# Altium schematic symbol library Air_Logger_PCB.SCHLIB: 60 symbols
Pins are listed as number, name and electrical type; pins without a type are passive.

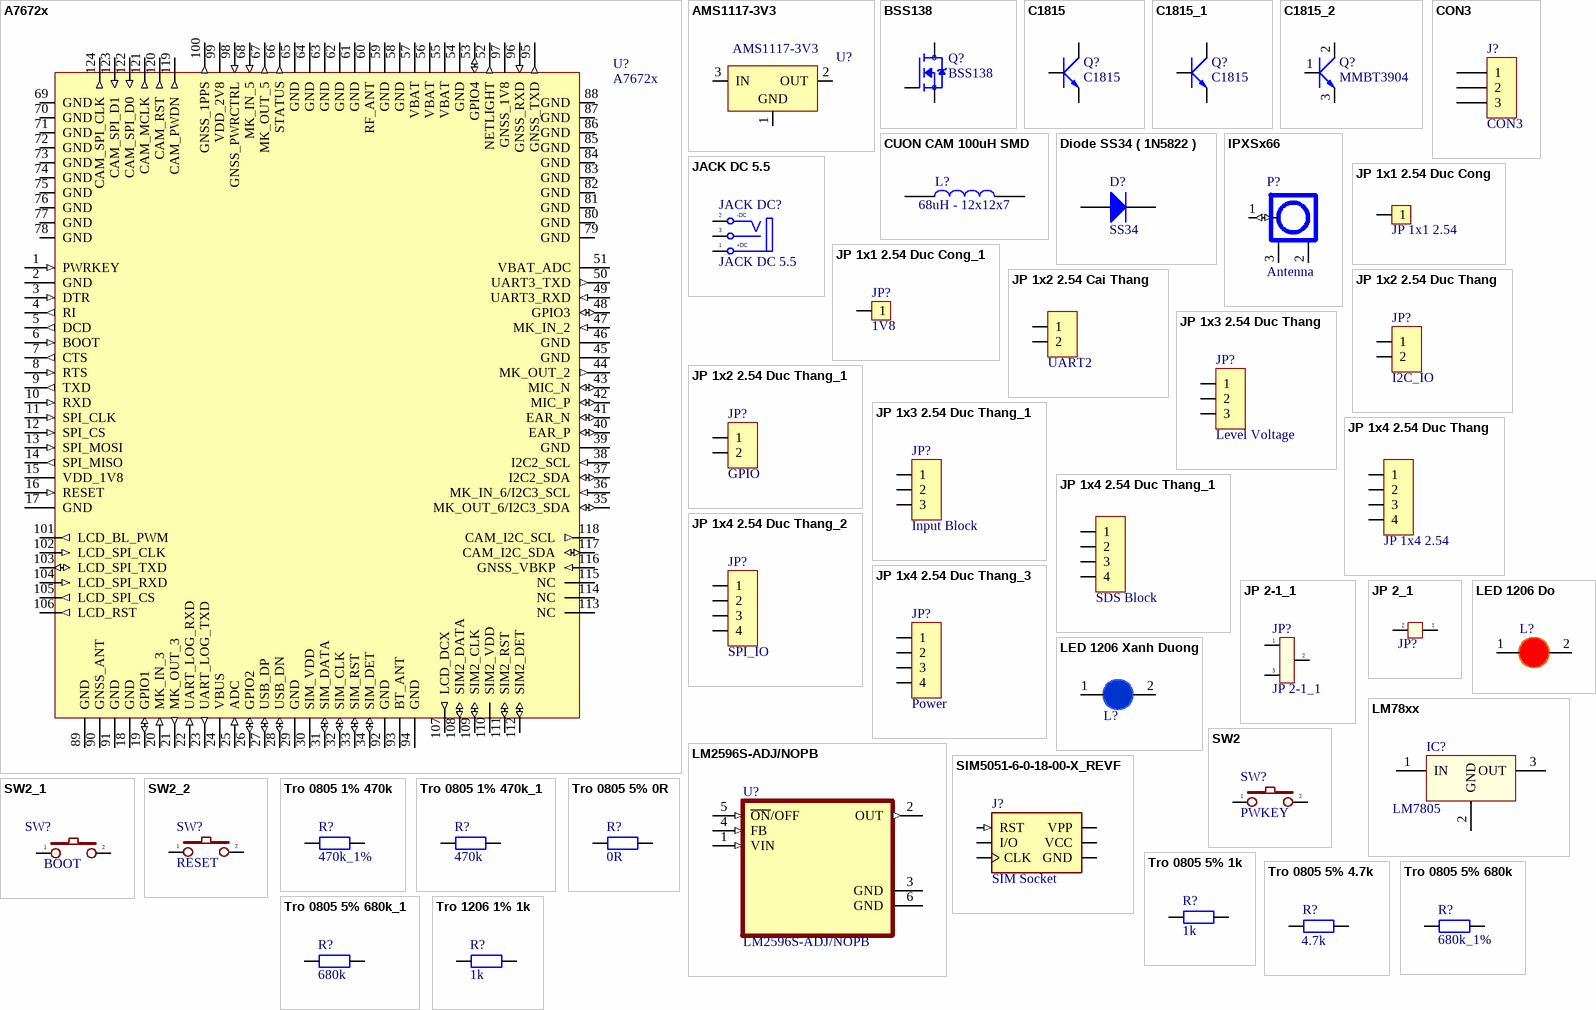
[diagram p0: symbols A7672x to Tro 1206 1% 1k]

## A7672x
designator U?
LTE CAT 1 module, 2,3,4G; MFR: SIMCOM; MPN: A7672S; Company ID: VT_Module_A7672S
footprint A7672
pins: 1 PWRKEY (in), 2 GND (power), 3 DTR (in), 4 RI (out), 5 DCD (out), 6 BOOT (in), 7 CTS (out), 8 RTS (in), 9 TXD (out), 10 RXD (in), 11 SPI_CLK (in), 12 SPI_CS (in), 13 SPI_MOSI (in), 14 SPI_MISO (out), 15 VDD_1V8 (power), 16 RESET (in), 17 GND (power), 18 GND (power), 19 GPIO1 (io), 20 MK_IN_3 (in), 21 MK_OUT_3 (out), 22 UART_LOG_RXD (in), 23 UART_LOG_TXD (out), 24 VBUS (power), 25 ADC (in), 26 GPIO2 (io), 27 USB_DP (io), 28 USB_DN (io), 29 GND (power), 30 SIM_VDD (power), 31 SIM_DATA (io), 32 SIM_CLK (io), 33 SIM_RST (io), 34 SIM_DET (io), 35 MK_OUT_6/I2C3_SDA (io), 36 MK_IN_6/I2C3_SCL (in), 37 I2C2_SDA (io), 38 I2C2_SCL (in), 39 GND (power), 40 EAR_P (io), 41 EAR_N (io), 42 MIC_P (io), 43 MIC_N (io), 44 MK_OUT_2 (out), 45 GND (power), 46 GND (power), 47 MK_IN_2 (in), 48 GPIO3 (io), 49 UART3_RXD (in), 50 UART3_TXD (out), 51 VBAT_ADC (power), 52 NETLIGHT (out), 53 GPIO4 (io), 54 GND (power), 55 VBAT (power), 56 VBAT (power), 57 VBAT (power), 58 GND (power), 59 GND (power), 60 RF_ANT, 61 GND (power), 62 GND (power), 63 GND (power), 64 GND (power), 65 GND (power), 66 STATUS (out), 67 MK_OUT_5 (out), 68 MK_IN_5 (in), 69 GND (power), 70 GND (power), 71 GND (power), 72 GND (power), 73 GND (power), 74 GND (power), 75 GND (power), 76 GND (power), 77 GND (power), 78 GND (power), 79 GND (power), 80 GND (power), 81 GND (power), 82 GND (power), 83 GND (power), 84 GND (power), 85 GND (power), 86 GND (power), 87 GND (power), 88 GND (power), 89 GND (power), 90 GNSS_ANT, 91 GND (power), 92 GND (power), 93 BT_ANT, 94 GND (power), 95 GNSS_TXD (out), 96 GNSS_RXD (in), 97 GNSS_1V8 (power), 98 GNSS_PWRCTRL (in), 99 VDD_2V8 (power), 100 GNSS_1PPS (out), 101 LCD_BL_PWM (out), 102 LCD_SPI_CLK (in), 103 LCD_SPI_TXD (io), 104 LCD_SPI_RXD (in), 105 LCD_SPI_CS (out), 106 LCD_RST (out), 107 LCD_DCX (out), 108 SIM2_DATA (io), 109 SIM2_CLK (io), 110 SIM2_VDD (power), 111 SIM2_RST (io), 112 SIM2_DET (io), 113 NC, 114 NC, 115 NC, 116 GNSS_VBKP (in), 117 CAM_I2C_SDA (io), 118 CAM_I2C_SCL (out), 119 CAM_PWDN (out), 120 CAM_RST (out), 121 CAM_MCLK (out), 122 CAM_SPI_D0 (in), 123 CAM_SPI_D1 (in), 124 CAM_SPI_CLK (out)

## AMS1117-3V3
designator U?
Linear Voltage Regulator 3.3V 1A 15V Max SOT-223; ComponentLink1Description: Datasheet; ComponentLink1URL: D:\Dropbox\Datasheets\Power Management ICs\Linear Regulators\AMS1117.pdf; Unit Price: 0.2000
footprint AMS1117-3.3V (SOT223, 4-Leads, Body 6.7x7.3mm (max), Pitch 2.30mm, IPC Medium Density)
pins: 1 GND (power), 2 OUT (power), 3 IN (power), 4 OUT (power)

## BSS138
designator Q?
N-Channel 50V 220mA (Ta) 360mW (Ta) Surface Mount SOT-23-3; MF: ON Semiconductor; MP: BSS138; Price: None; SnapEDA_Link: https://www.snapeda.com/parts/BSS138/ON%20Semiconductor/view-part/4794929/?ref=snap; Availability: Good; Purchase-URL: https://pricing.snapeda.com/search/part/BSS138/?ref=eda; Value: *; Check_prices: https://www.snapeda.com/parts/BSS138/ON%20Semiconductor/view-part/4794929/?ref=eda; Package: SOT-23 ON Semiconductor
footprint SOT95P240X111-3N
pins: 1 G, 2 S, 3 D

## C1815
designator Q?
NPN 600mW, ECB; Value: C1815
footprint QTO-92 (TO-92)
footprint SOT23B (SOT 23B)
pins: 1 E, 2 C, 3 B

## C1815_1
designator Q?, comment C1815
NPN 600mW, ECB; Value: C1815
footprint QTO-92 (TO-92)
footprint SOT23B (SOT 23B)
pins: 1 E, 2 C, 3 B

## C1815_2
designator Q?, comment MMBT3904
NPN 600mW, ECB; Value: C1815
footprint SOT23B C1815
pins: 1 B, 2 C, 3 E

## CON3
designator J?
Connector
footprint CON3
pins: 1, 2, 3

## CUON CAM 100uH SMD
designator L?, comment 68uH - 12x12x7
Dán; Don_Vi: Con; Ma_Hang: MH003999; Ten_Linh_Kien: Cuộn Cảm 100uH 7x7x4MM CD74; Ma_Hang: *; Kieu_Chan: *; Chung_Loai: Dán
footprint Cuon Cam 12x12x10
pins: 1, 2

## Diode SS34 ( 1N5822 )
designator D?, comment SS34
Dán; Don_Vi: Con; Ma_Hang: MH002104; Ten_Linh_Kien: Diode SS34 3A 40V SMA ( 1N5822 SS34A); Kieu_Chan: *; Chung_Loai: Dán
footprint DIODE SMA (SMA)
pins: 1 A, 2 K

## IPXSx66
designator P?, comment Antenna
Antenna GSM GPS
footprint IPXS (SOT 23 _ 1-3-2)
pins: 1 (io), 2, 3

## JACK DC 5.5
designator JACK DC?
Value: Jac DC
footprint JACK DC 5.5 (Jac DC input)
pins: 1 T "Tip", 2 TN "Tip Normal (Break Contact)", 3 S (power) "Sleeve (Ground)"
text: -DC; +DC

## JP 1x1 2.54 Duc Cong
designator JP?, comment JP 1x1 2.54
Cắm; Ten_Linh_Kien: Jump Đơn Đực 2.54MM 1x40P Cong Đứng; Don_Vi: Con; Ma_Hang: MH000904; Ghi_Chu: *; Kieu_Chan: *; Chung_Loai: Cắm
footprint JP 1x1 DT
pins: 1

## JP 1x1 2.54 Duc Cong_1
designator JP?, comment 1V8
Cắm; Ten_Linh_Kien: Jump Đơn Đực 2.54MM 1x40P Cong Đứng; Don_Vi: Con; Ma_Hang: MH000904; Ghi_Chu: *; Kieu_Chan: *; Chung_Loai: Cắm
footprint JP 1x1 DT
pins: 1

## JP 1x2 2.54 Cai Thang
designator JP?, comment UART2
Cắm; Ten_Linh_Kien: Jump Đơn Cái 2.54MM 1x20P Thẳng; Don_Vi: Con; Ma_Hang: MH004006; Ghi_Chu: *; Kieu_Chan: *; Chung_Loai: Cắm
footprint JP 1x2 CT
pins: 1, 2

## JP 1x2 2.54 Duc Thang
designator JP?, comment I2C_IO
Cắm; Ten_Linh_Kien: Jump Đơn Đực 2.54MM 1x40P Thẳng 11MM; Don_Vi: Con; Ma_Hang: MH000903; Ghi_Chu: *; Kieu_Chan: *; Chung_Loai: Cắm
footprint JP 1x2 DT (2 pins, 1 row, straight, gold plating)
pins: 1, 2

## JP 1x2 2.54 Duc Thang_1
designator JP?, comment GPIO
Cắm; Ten_Linh_Kien: Jump Đơn Đực 2.54MM 1x40P Thẳng 11MM; Don_Vi: Con; Ma_Hang: MH000903; Ghi_Chu: *; Kieu_Chan: *; Chung_Loai: Cắm
footprint JP 1x2 DT (2 pins, 1 row, straight, gold plating)
pins: 1, 2

## JP 1x3 2.54 Duc Thang
designator JP?, comment Level Voltage
Cắm; Ten_Linh_Kien: Jump Đơn Đực 2.54MM 1x40P Thẳng 11MM; Don_Vi: Con; Ma_Hang: MH000903; Ghi_Chu: *; Kieu_Chan: *; Chung_Loai: Cắm
footprint JP 1x3 DT
pins: 1, 2, 3

## JP 1x3 2.54 Duc Thang_1
designator JP?, comment Input Block
Cắm; Ten_Linh_Kien: Jump Đơn Đực 2.54MM 1x40P Thẳng 11MM; Don_Vi: Con; Ma_Hang: MH000903; Ghi_Chu: *; Kieu_Chan: *; Chung_Loai: Cắm
footprint JP 1x3 DT
pins: 1, 2, 3

## JP 1x4 2.54 Duc Thang
designator JP?, comment JP 1x4 2.54
Cắm; Ten_Linh_Kien: Jump Đơn Đực 2.54MM 1x40P Thẳng 11MM; Don_Vi: Con; Ma_Hang: MH000903; Ghi_Chu: *; Kieu_Chan: *; Chung_Loai: Cắm
footprint JP 1x4 DT (4 pins, 1 row, straight, gold plating)
pins: 1, 2, 3, 4

## JP 1x4 2.54 Duc Thang_1
designator JP?, comment SDS Block
Cắm; Ten_Linh_Kien: Jump Đơn Đực 2.54MM 1x40P Thẳng 11MM; Don_Vi: Con; Ma_Hang: MH000903; Ghi_Chu: *; Kieu_Chan: *; Chung_Loai: Cắm
footprint JP 1x4 DT (4 pins, 1 row, straight, gold plating)
pins: 1, 2, 3, 4

## JP 1x4 2.54 Duc Thang_2
designator JP?, comment SPI_IO
Cắm; Ten_Linh_Kien: Jump Đơn Đực 2.54MM 1x40P Thẳng 11MM; Don_Vi: Con; Ma_Hang: MH000903; Ghi_Chu: *; Kieu_Chan: *; Chung_Loai: Cắm
footprint JP 1x4 DT (4 pins, 1 row, straight, gold plating)
pins: 1, 2, 3, 4

## JP 1x4 2.54 Duc Thang_3
designator JP?, comment Power
Cắm; Ten_Linh_Kien: Jump Đơn Đực 2.54MM 1x40P Thẳng 11MM; Don_Vi: Con; Ma_Hang: MH000903; Ghi_Chu: *; Kieu_Chan: *; Chung_Loai: Cắm
footprint JP 1x4 DT (4 pins, 1 row, straight, gold plating)
pins: 1, 2, 3, 4

## JP 2-1_1
designator JP?
Jumper 2-1; Value: J2-1
footprint JP3 (Jumper 3)
pins: 1, 2, 3

## JP 2_1
designator JP?, comment Jumper 2  (value not drawn)
Value: JP 2
footprint J2 (Jum select vdd or gnd)
pins: 1, 2

## LED 1206 Do
designator L?, comment LED 0805  (value not drawn)
Dán; Don_Vi: Con; Ma_Hang: MH002334; Ten_Linh_Kien: LED1206 Màu Đỏ (Red); Ghi_Chu: *; Kieu_Chan: *; Chung_Loai: Dán
footprint LED-1206-Red
pins: 1 A, 2 K

## LED 1206 Xanh Duong
designator L?, comment LED 0805  (value not drawn)
Dán; Don_Vi: Con; Ma_Hang: MH002333; Ten_Linh_Kien: LED1206 Màu Xanh Dương (Blue); Ghi_Chu: *; Kieu_Chan: *; Chung_Loai: Dán
footprint LED-1206-Blue (Compoment SMD 120x60mil)
pins: 1 A, 2 K

## LM78xx
designator IC?, comment LM7805
On ap +, from + 5 to + 24VDC; Value: LM7805
footprint QTO-220 (TO-220 - 1-2-3)
footprint QTO-220H3 (TO-220 1-2-3)
footprint QTO-220NH (TO-220 - 1-2-3)
footprint TO-252
footprint 78l05
pins: 1 IN, 2 GND, 3 OUT

## LM2596S-ADJ/NOPB
designator U?
SIMPLE SWITCHER&reg; 4.5V to 40V, 3A Low Component Count Step-Down Regulator; MF: Texas Instruments; Price: None; Package: TO-263-5 Texas Instruments; Purchase-URL: https://pricing.snapeda.com/search/part/LM2596S-ADJ/NOPB/?ref=eda; Availability: In Stock; SnapEDA_Link: https://www.snapeda.com/parts/LM2596S-ADJ/NOPB/Texas+Instruments/view-part/?ref=snap; Value: *; MP: LM2596S-ADJ/NOPB; Check_prices: https://www.snapeda.com/parts/LM2596S-ADJ/NOPB/Texas+Instruments/view-part/?ref=eda
footprint VREG_LM2596S-ADJ/NOPB
pins: 1 VIN (in), 2 OUT (out), 3 GND (power), 4 FB (in), 5 ~{ON}/OFF (in), 6 GND (power)

## SIM5051-6-0-18-00-X_REVF
designator J?, comment SIM Socket
Memory Socket, Sim Card, 6pos; MP: SIM5051-6-0-18-00-A REV C; MF: Global Connector Technology; Availability: Unavailable; SnapEDA_Link: https://www.snapeda.com/parts/SIM5051-6-0-18-00-A%20REV%20C/Global%20Connector%20Technology/view-part/812969/?ref=snap; Price: None; Package: None; Value: *
footprint GCT_SIM5051-6-0-18-00-X_REVF
pins: C1 VCC (power), C2 RST (in), C3 CLK (io), C5 GND (power), C6 VPP (power), C7 I/O (io)

## SW2
designator SW?, comment PWKEY
Switch button 2 pin; Value: SW chip 2 pin
footprint SW2 (SW button 2pin, 250x 250 mil)
footprint sw_ran_2pin
footprint BUTT_Cam_ung
pins: 1, 2

## SW2_1
designator SW?, comment BOOT
Switch button 2 pin; Value: SW chip 2 pin
footprint SW2 (SW button 2pin, 250x 250 mil)
footprint sw_ran_2pin
footprint BUTT_Cam_ung
pins: 1, 2

## SW2_2
designator SW?, comment RESET
Switch button 2 pin; Value: SW chip 2 pin
footprint SW2 (SW button 2pin, 250x 250 mil)
footprint sw_ran_2pin
footprint BUTT_Cam_ung
pins: 1, 2

## Tro 0805 1% 470k
designator R?, comment 470k_1%
Dán; Don_Vi: Con; So_Chan: 2; Ten_Linh_Kien: Trở 0805 1% 470k; Ma_Hang: MH005485; Chung_Loai: Dán; Kieu_Chan: *
footprint tro smd 0805
pins: 1, 2

## Tro 0805 1% 470k_1
designator R?, comment 470k
Dán; Don_Vi: Con; So_Chan: 2; Ten_Linh_Kien: Trở 0805 1% 470k; Ma_Hang: MH005485; Chung_Loai: Dán; Kieu_Chan: *
footprint tro smd 0805
pins: 1, 2

## Tro 0805 5% 0R
designator R?, comment 0R
Dán; Don_Vi: Con; So_Chan: 2; Ten_Linh_Kien: Trở 0805 5% 0R; Ma_Hang: MH005230; Chung_Loai: Dán; Kieu_Chan: *
footprint tro smd 0805
pins: 1, 2

## Tro 0805 5% 1k
designator R?, comment 1k
Dán; Don_Vi: Con; So_Chan: 2; Ten_Linh_Kien: Trở 0805 5% 1k; Ma_Hang: MH005234; Chung_Loai: Dán; Kieu_Chan: *
footprint tro smd 0805
pins: 1, 2

## Tro 0805 5% 4.7k
designator R?, comment 4.7k
Dán; Don_Vi: Con; So_Chan: 2; Ten_Linh_Kien: Trở 0805 5% 4.7k; Ma_Hang: MH005307; Chung_Loai: Dán; Kieu_Chan: *
footprint tro smd 0805
pins: 1, 2

## Tro 0805 5% 680k
designator R?, comment 680k_1%
Dán; Don_Vi: Con; Ma_Hang: MH005343; Ten_Linh_Kien: Trở 0805 5% 680k; So_Chan: 2; Chung_Loai: Dán; Kieu_Chan: *
footprint Tro SMD 0805
pins: 1, 2

## Tro 0805 5% 680k_1
designator R?, comment 680k
Dán; Don_Vi: Con; Ma_Hang: MH005343; Ten_Linh_Kien: Trở 0805 5% 680k; So_Chan: 2; Chung_Loai: Dán; Kieu_Chan: *
footprint Tro SMD 0805
pins: 1, 2

## Tro 1206 1% 1k
designator R?, comment 1k
Dán; Don_Vi: Con; So_Chan: 2; Ten_Linh_Kien: Trở 1206 1% 1k; Ma_Hang: MH005880; Chung_Loai: Dán; Kieu_Chan: *
footprint tro smd 1206
pins: 1, 2

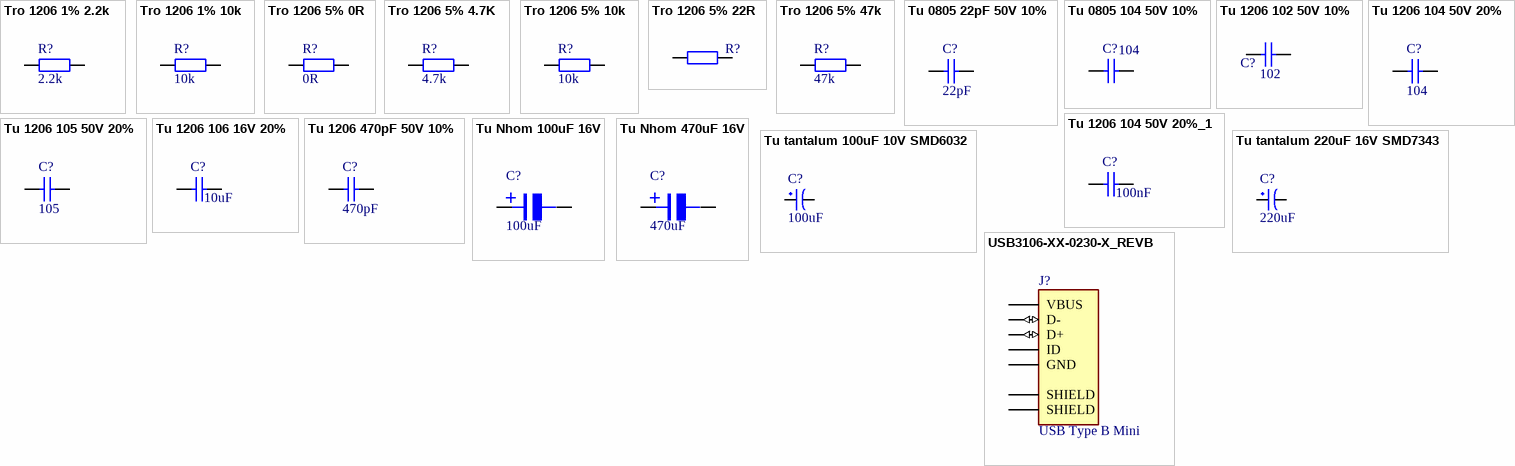
[diagram p1: symbols Tro 1206 1% 2.2k to USB3106-XX-0230-X_REVB]

## Tro 1206 1% 2.2k
designator R?, comment 2.2k
Dán; Chung_Loai: Cắm; Don_Vi: Con; So_Chan: 2; Ten_Linh_Kien: Trở 1206 1% 2.2k; Ma_Hang: MH005882; Kieu_Chan: *
footprint tro smd 1206
pins: 1, 2

## Tro 1206 1% 10k
designator R?, comment 10k
Dán; Don_Vi: Con; So_Chan: 2; Ten_Linh_Kien: Trở 1206 1% 10k; Ma_Hang: MH005885; Chung_Loai: Dán; Kieu_Chan: *
footprint tro smd 1206
pins: 1, 2

## Tro 1206 5% 0R
designator R?, comment 0R
Dán; Don_Vi: Con; So_Chan: 2; Ten_Linh_Kien: Trở 1206 5% 0R; Ma_Hang: MH005902; Chung_Loai: Dán; Kieu_Chan: *
footprint tro smd 1206
pins: 1, 2

## Tro 1206 5% 4.7K
designator R?, comment 4.7k
Dán; So_Chan: 2; Don_Vi: Con; Ten_Linh_Kien: Trở 1206 5% 4.7k; Ma_Hang: MH005908; Chung_Loai: Dán; Kieu_Chan: *
footprint tro smd 1206
pins: 1, 2

## Tro 1206 5% 10k
designator R?, comment 10k
Dán; Don_Vi: Con; So_Chan: 2; Ten_Linh_Kien: Trở 1206 5% 10K; Ma_Hang: MH005909; Chung_Loai: Dán; Kieu_Chan: *
footprint tro smd 1206
pins: 1, 2

## Tro 1206 5% 22R
designator R?, comment 22R  (value not drawn)
Dán; Don_Vi: Con; So_Chan: 2; Ten_Linh_Kien: Trở 1206 5% 22R; Ma_Hang: MH005913; Chung_Loai: Dán; Kieu_Chan: *
footprint Tro smd 1206
pins: 1, 2

## Tro 1206 5% 47k
designator R?, comment 47k
Dán; Don_Vi: Con; Ten_Linh_Kien: Trở 1206 5% 47k; Ma_Hang: MH005916; So_Chan: 2; Chung_Loai: Dán; Kieu_Chan: *
footprint tro smd 1206
pins: 1, 2

## Tu 0805 22pF 50V 10%
designator C?, comment 22pF
Dán; Don_Vi: Con; So_Chan: 2; Ten_Linh_Kien: Tụ 0805 22P 10% 50V; Ma_Hang: MH004560; Chung_Loai: Dán; Kieu_Chan: *
footprint tu 0805 (Compoment SMD 80x50mil)
pins: 1, 2

## Tu 0805 104 50V 10%
designator C?, comment 104
Dán; Don_Vi: Con; So_Chan: 2; Ten_Linh_Kien: Tụ 0805 104-100nF 10% 50V; Ma_Hang: MH004551; Chung_Loai: Dán; Kieu_Chan: *
footprint tu 0805 (Compoment SMD 80x50mil)
pins: 1, 2

## Tu 1206 102 50V 10%
designator C?, comment 102
Dán; Don_Vi: Con; So_Chan: 2; Ten_Linh_Kien: Tụ 1206 102-1nF 10% 50V; Ma_Hang: MH004542; Chung_Loai: Dán; Kieu_Chan: *
footprint tu 1206
pins: 1, 2

## Tu 1206 104 50V 20%
designator C?, comment 104
Dán; Don_Vi: Con; So_Chan: 2; Ten_Linh_Kien: Tụ 1206 104-0.1uF 20% 50V; Ma_Hang: MH004544; Chung_Loai: Dán; Kieu_Chan: *
footprint tu 1206
pins: 1, 2

## Tu 1206 104 50V 20%_1
designator C?, comment 100nF
Dán; Don_Vi: Con; So_Chan: 2; Ten_Linh_Kien: Tụ 1206 104-0.1uF 20% 50V; Ma_Hang: MH004544; Chung_Loai: Dán; Kieu_Chan: *
footprint tu 1206
pins: 1, 2

## Tu 1206 105 50V 20%
designator C?, comment 105
Dán; Don_Vi: Con; So_Chan: 2; Ten_Linh_Kien: Tụ 1206 105-1uF 20% 50V; Ma_Hang: MH004545; Chung_Loai: Dán; Kieu_Chan: *
footprint tu 1206
pins: 1, 2

## Tu 1206 106 16V 20%
designator C?, comment 10uF
Dán; Don_Vi: Con; So_Chan: 2; Ten_Linh_Kien: Tụ 1206 106-10uF 20% 16V; Ma_Hang: MH004541; Chung_Loai: Dán; Kieu_Chan: *
footprint tu 1206
pins: 1, 2

## Tu 1206 470pF 50V 10%
designator C?, comment 470pF
Dán; Don_Vi: Con; So_Chan: 2; Ten_Linh_Kien: Tụ 1206 470P 10% 50V; Ma_Hang: MH004548; Chung_Loai: Dán; Kieu_Chan: *
footprint tu 1206
pins: 1, 2

## Tu Nhom 100uF 16V
designator C?, comment 100uF
Dán; Don_Vi: Con; So_Chan: 2; Ten_Linh_Kien: Tụ Nhôm 100uF 16V 6.3x5.4MM; Ma_Hang: MH002219; Chung_Loai: Dán; Kieu_Chan: *
footprint tu nhom 6.3 (d)
pins: 1, 2
text: +

## Tu Nhom 470uF 16V
designator C?, comment 470uF
Dán; Don_Vi: Con; So_Chan: 2; Ten_Linh_Kien: Tụ Nhôm 470uF 16V 8x10.4MM; Ma_Hang: MH001940; Chung_Loai: Dán; Kieu_Chan: *
footprint tu nhom 8 (f)
pins: 1, 2
text: +

## Tu tantalum 100uF 10V SMD6032
designator C?, comment 100uF
Dán; Don_Vi: Con; So_Chan: 2; Ten_Linh_Kien: Tụ tantalum 107A-100uF 10V SMD6032; Ma_Hang: MH007594; Chung_Loai: Dán; Kieu_Chan: *
footprint tu tantalum smd6032
pins: 1, 2

## Tu tantalum 220uF 16V SMD7343
designator C?, comment 220uF
Dán; Don_Vi: Con; So_Chan: 2; Ten_Linh_Kien: Tụ tantalum 227C-220uF 16V SMD7343; Ma_Hang: MH002345; Chung_Loai: Dán; Kieu_Chan: *
footprint tu tantalum smd7343
pins: 1, 2

## USB3106-XX-0230-X_REVB
designator J?, comment USB Type B Mini
USB - micro AB USB 2.0 Receptacle Connector 5 Position Through Hole; MP: USB3106-30-0230-A; MF: Global Connector Technology; Price: None; SnapEDA_Link: https://www.snapeda.com/parts/USB3106-30-0230-A/Global%20Connector%20Technology/view-part/491956/?ref=snap; Availability: Unavailable; Value: *; Package: None
footprint GCT_USB3106-XX-0230-X_REVB
pins: 1 VBUS (power), 2 D- (io), 3 D+ (io), 4 ID, 5 GND (power), 6 SHIELD, 7 SHIELD